# EAGLE library part BQ24090DGQR (library Battery Chargers)
Charger IC Lithium Ion/Polymer 10-MSOP-PowerPad Manufacturer's datasheet <https://www.ti.com/lit/ds/symlink/bq24092.pdf?HQS=TI-null-null-digikeymode-df-pf-null-wwe&ts=1594290349521>
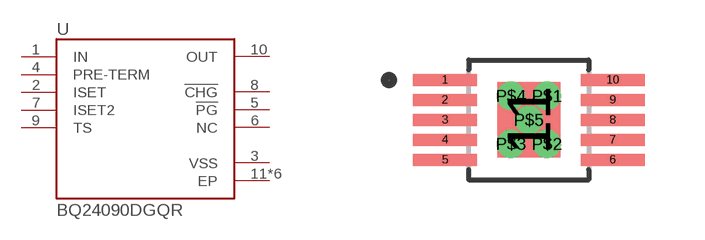
[diagram p14: symbol with the pads of BQ24090DGQR; footprint BQ24090DGQR]

Designator prefix U

## BQ24090DGQR (CREATED_BY: PCBLayout.com; DIGIKEY_PART_NUMBER: 296-38875-1-ND; MANUFACTURER: Texas Instruments; MPN: BQ24090DGQR; PACKAGE: 10-MSOP)  [BQ24090DGQR]
1  IN  in
2  ISET  in
3  VSS  pwr
4  PRE-TERM  in
5  !PG  out
6  NC  pas
7  ISET2  in
8  !CHG  out
9  TS  in
10  OUT  out
11  EP  pwr
P$1  EP  pwr
P$2  EP  pwr
P$3  EP  pwr
P$4  EP  pwr
P$5  EP  pwr

## Footprint BQ24090DGQR (pad centres in mm)
smd 1.6 x 0.3: 1 -2.1,1; 2 -2.1,0.5; 3 -2.1,0; 4 -2.1,-0.5; 5 -2.1,-1; 6 2.1,-1; 7 2.1,-0.5; 8 2.1,0; 9 2.1,0.5; 10 2.1,1
smd 1.57 x 1.88: 11 0,0
drill 0.2 pad 0.5: P$1 0.45,0.6; P$2 0.45,-0.6; P$3 -0.45,-0.6; P$4 -0.45,0.6; P$5 0,0